# Altium footprint library IMU.PcbLib: 4 footprints
Each footprint in its own frame and in the unit in brackets; x right, y up, seen from the top. Pads: shape width x height; smd on the part's side, far side on the other; paste and mask are expansions set on the pad; w line width, h text height; cw(c..) or ccw(c..) is an arc to the next point about the centre after c.
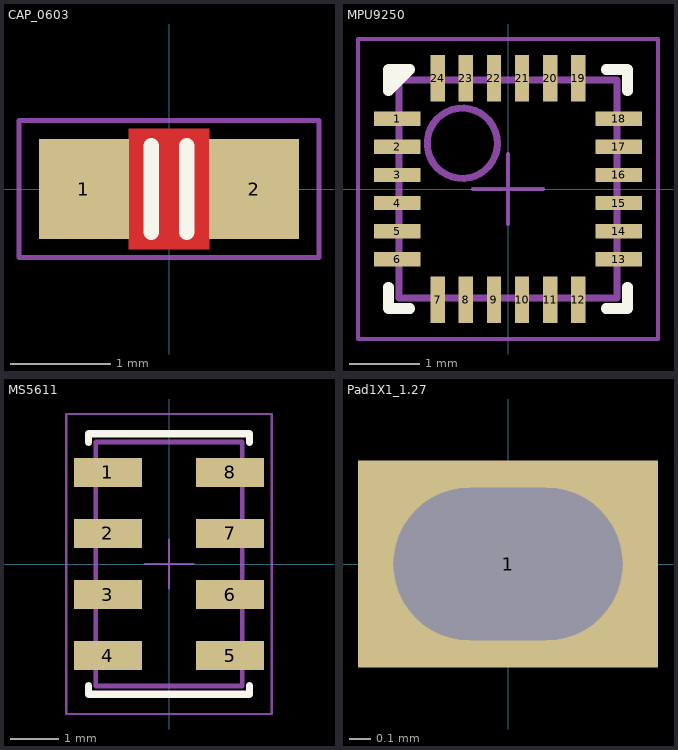
[diagram p0: the footprints below, top view; thin cyan lines are the x and y axes]

## CAP_0603 [mm] "Chip Capacitor, Body 1.6x0.8mm, 0603, IPC Medium Density"
height 0.8
pads (2):
  rect 0.9x1 smd: 1(-0.85,0) 2(0.85,0)
Top Layer:
  pour cut-out: -0.4,0.6 0.4,0.6 0.4,-0.6 -0.4,-0.6
Top Overlay:
  lines w0.152: -0.178,-0.432 -0.178,0.432 ; 0.178,-0.432 0.178,0.432
Mechanical 13:
  lines w0.05: -0.875,-0.475 -0.875,0.475 -0.475,0.475 -0.475,-0.475 -0.875,-0.475 ; -0.475,-0.474 0.475,-0.474 -0.475,-0.474 ; -0.475,0.474 0.475,0.474 -0.475,0.474 ; 0.475,-0.475 0.875,-0.475 0.875,0.475 0.475,0.475 0.475,-0.475
Mechanical 14:
  lines w0.051: -1.499,-0.686 1.499,-0.686 1.499,0.686 -1.499,0.686 -1.499,-0.686
3D body: height 0.89, standoff -0.01, extent -0.85,-0.45 0.85,0.45

## MPU9250 [mm] "QFN, 24-Leads, Body 3.00x3.00mm, Pitch 0.40mm, Thermal Pad 1.54x1.70mm, IPC Medium Density"
height 1
pads (24):
  rect 0.66x0.203 smd: 1(-1.575,1) 2(-1.575,0.6) 3(-1.575,0.2) 4(-1.575,-0.2) 5(-1.575,-0.6) 6(-1.575,-1) 13(1.575,-1) 14(1.575,-0.6) 15(1.575,-0.2) 16(1.575,0.2) 17(1.575,0.6) 18(1.575,1)
  rect 0.203x0.66 smd: 7(-1,-1.575) 8(-0.6,-1.575) 9(-0.2,-1.575) 10(0.2,-1.575) 11(0.6,-1.575) 12(1,-1.575) 19(1,1.575) 20(0.6,1.575) 21(0.2,1.575) 22(-0.2,1.575) 23(-0.6,1.575) 24(-1,1.575)
Top Overlay:
  region: -1.7,1.7 -1.7,1.397 -1.397,1.7
  lines w0.152: -1.7,-1.397 -1.7,-1.7 -1.397,-1.7 ; 1.397,-1.7 1.7,-1.7 1.7,-1.397 ; 1.397,1.7 1.7,1.7 1.7,1.397 ; -1.7,1.397 -1.7,1.7 -1.397,1.7 -1.7,1.397
Mechanical 13:
  circle w0.1: c-0.65,0.65 r0.5
  lines w0.1: -1.55,-1.55 1.55,-1.55 1.55,1.55 -1.55,1.55 -1.55,-1.55
Mechanical 15:
  lines w0.051: -0.5,0 0.5,0 ; 0,-0.5 0,0.5 ; -2.134,-2.134 2.134,-2.134 2.134,2.134 -2.134,2.134 -2.134,-2.134
3D body: height 0.8, standoff 0, extent -2.045,-2.045 2.045,2.045

## MS5611 [mm] "QFN, 8-Leads, Body 5.00x3.00mm, Pitch 1.25mm/0.00mm, Thermal Pad 4.35x0.00mm, IPC Medium Density"
height 1
pads (8):
  rect 1.4x0.6 smd: 1(-1.25,1.875) 2(-1.25,0.625) 3(-1.25,-0.625) 4(-1.25,-1.875) 5(1.25,-1.875) 6(1.25,-0.625) 7(1.25,0.625) 8(1.25,1.875)
Top Overlay:
  lines w0.152: -1.65,-2.489 -1.65,-2.667 1.65,-2.667 1.65,-2.489 ; -1.65,2.489 -1.65,2.667 1.65,2.667 1.65,2.489
Mechanical 13:
  lines w0.1: -1.5,-2.5 1.5,-2.5 1.5,2.5 -1.5,2.5 -1.5,-2.5
Mechanical 15:
  lines w0.051: -0.5,0 0.5,0 ; 0,-0.5 0,0.5 ; -2.108,-3.073 2.108,-3.073 2.108,3.073 -2.108,3.073 -2.108,-3.073
3D body: height 1, standoff 0, extent -1.6,-2.5 1.6,2.5

## Pad1X1_1.27 [mil] "Connector; Header; 2 Position"
height 169.29
pads (1):
  rect 55x38 hole 28 slot 42 at 0 deg: 1(0,0)